# EAGLE library part PHOTO_COUPLER_ILD205T (library akita)
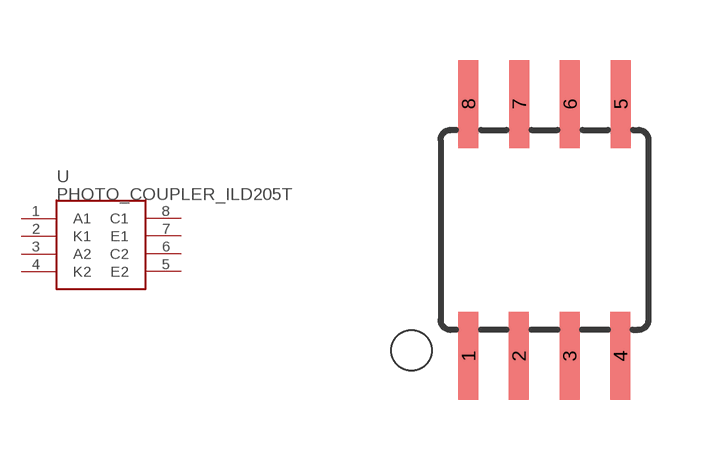
[diagram p4: symbol with the pads of SOIC8; footprint SOIC8]

Designator prefix U

## PHOTO_COUPLER_ILD205T  [SOIC8]
1  A1
2  K1
3  A2
4  K2
5  E2
6  C2
7  E1
8  C1

## Footprint SOIC8 (pad centres in mm)
Wide Plastic Gull Wing Small Outline Package
smd 0.5 x 2.2: 1 -1.905,-3.154; 2 -0.645,-3.154; 3 0.625,-3.154; 4 1.895,-3.154; 5 1.905,3.154; 6 0.635,3.154; 7 -0.635,3.154; 8 -1.905,3.154